# EAGLE library part ATMEGA328P (library Shohei)
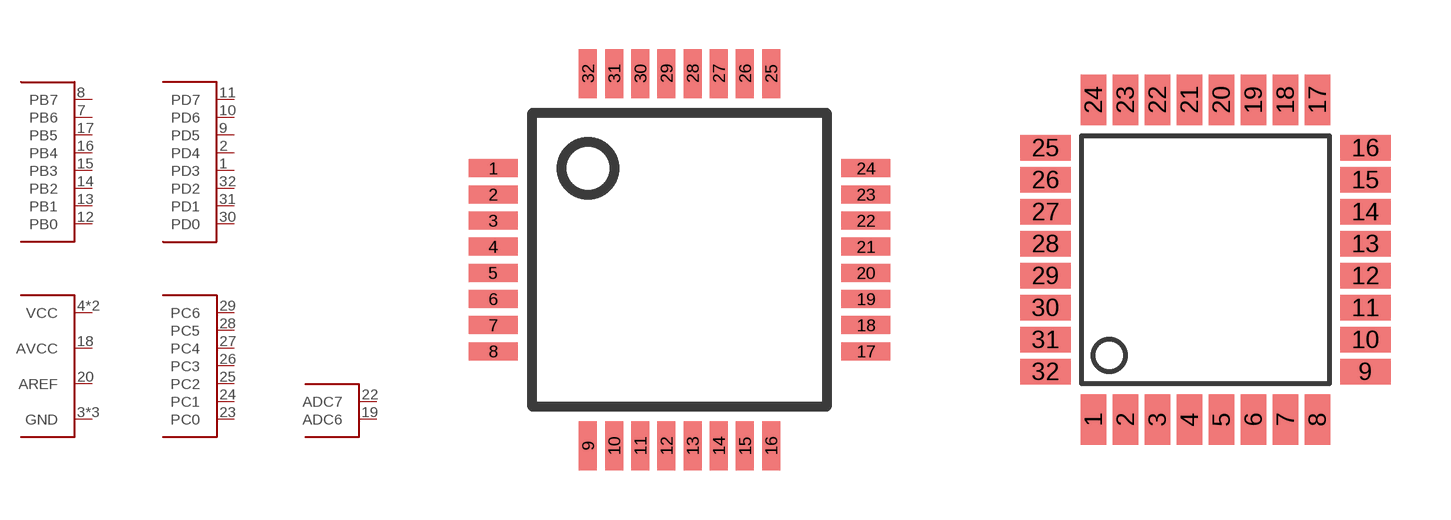
[diagram p17: symbol with the pads of LQFP32; footprints LQFP32, 32A]

Designator prefix -

## ATMEGA328P  [LQFP32]
1  PD3
2  PD4
3  GND
4  VCC
5  GND
6  VCC
7  PB6
8  PB7
9  PD5
10  PD6
11  PD7
12  PB0
13  PB1
14  PB2
15  PB3
16  PB4
17  PB5
18  AVCC
19  ADC6
20  AREF
21  GND
22  ADC7
23  PC0
24  PC1
25  PC2
26  PC3
27  PC4
28  PC5
29  PC6
30  PD0
31  PD1
32  PD2

## ATMEGA328P32A  [32A]
Pads as for LQFP32

## Footprint LQFP32 (pad centres in mm)
smd 1.5 x 0.55: 1 -5.7,2.8; 2 -5.7,2; 3 -5.7,1.2; 4 -5.7,0.4; 5 -5.7,-0.4; 6 -5.7,-1.2; 7 -5.7,-2; 8 -5.7,-2.8; 17 5.7,-2.8; 18 5.7,-2; 19 5.7,-1.2; 20 5.7,-0.4; 21 5.7,0.4; 22 5.7,1.2; 23 5.7,2; 24 5.7,2.8
smd 0.55 x 1.5: 9 -2.8,-5.7; 10 -2,-5.7; 11 -1.2,-5.7; 12 -0.4,-5.7; 13 0.4,-5.7; 14 1.2,-5.7; 15 2,-5.7; 16 2.8,-5.7; 25 2.8,5.7; 26 2,5.7; 27 1.2,5.7; 28 0.4,5.7; 29 -0.4,5.7; 30 -1.2,5.7; 31 -2,5.7; 32 -2.8,5.7

## Footprint 32A (pad centres in mm)
smd 0.635 x 1.27: 1 -2.8,-4; 2 -2,-4; 3 -1.2,-4; 4 -0.4,-4; 5 0.4,-4; 6 1.2,-4; 7 2,-4; 8 2.8,-4; 17 2.8,4; 18 2,4; 19 1.2,4; 20 0.4,4; 21 -0.4,4; 22 -1.2,4; 23 -2,4; 24 -2.8,4
smd 1.27 x 0.635: 9 4,-2.8; 10 4,-2; 11 4,-1.2; 12 4,-0.4; 13 4,0.4; 14 4,1.2; 15 4,2; 16 4,2.8; 25 -4,2.8; 26 -4,2; 27 -4,1.2; 28 -4,0.4; 29 -4,-0.4; 30 -4,-1.2; 31 -4,-2; 32 -4,-2.8